# EAGLE library part CMX138 (library cml-micro)
Sub-Audio Signalling Processor with Audio Scrambler
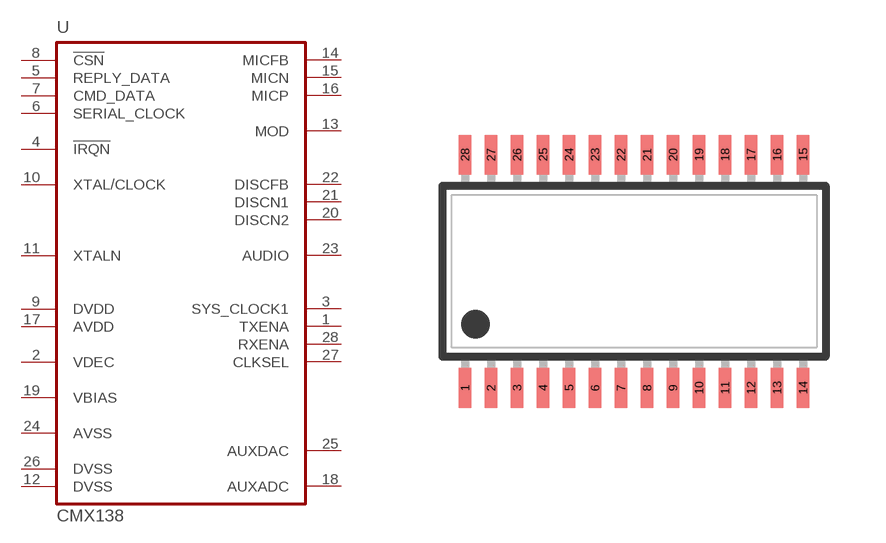
[diagram p7: symbol with the pads of TSSOP28; footprint TSSOP28]

Designator prefix U

## CMX138E1  [TSSOP28]
1  TXENA  out
2  VDEC  pas
3  SYS_CLOCK1  out
4  !IRQN!  oc
5  REPLY_DATA  out
6  SERIAL_CLOCK  in
7  CMD_DATA  in
8  !CSN!  in
9  DVDD  pwr
10  XTAL/CLOCK  in
11  XTALN  out
12  DVSS  pwr
13  MOD
14  MICFB  out
15  MICN  in
16  MICP  in
17  AVDD  pwr
18  AUXADC  in
19  VBIAS  pas
20  DISCN2  in
21  DISCN1  in
22  DISCFB  out
23  AUDIO  out
24  AVSS  pwr
25  AUXDAC  out
26  DVSS  pwr
27  CLKSEL  in
28  RXENA  out

## Footprint TSSOP28 (pad centres in mm)
Thin Shrink Small Outline Plastic 28
smd 0.305 x 0.991: 1 -4.225,-2.918; 2 -3.575,-2.918; 3 -2.925,-2.918; 4 -2.275,-2.918; 5 -1.625,-2.918; 6 -0.975,-2.918; 7 -0.325,-2.918; 8 0.325,-2.918; 9 0.975,-2.918; 10 1.625,-2.918; 11 2.275,-2.918; 12 2.925,-2.918; 13 3.575,-2.918; 14 4.225,-2.918; 15 4.225,2.918; 16 3.575,2.918; 17 2.925,2.918; 18 2.275,2.918; 19 1.625,2.918; 20 0.975,2.918; 21 0.325,2.918; 22 -0.325,2.918; 23 -0.975,2.918; 24 -1.625,2.918; 25 -2.275,2.918; 26 -2.925,2.918; 27 -3.575,2.918; 28 -4.225,2.918